# EAGLE library part TLC5955DCAR (library TLC5955DCAR)
48ch, 16bit PWM LED Driver with Dot-Correction, Brightness Control, Open/Short Detection Source: Datasheet <http://www.ti.com/lit/ds/symlink/tlc5955.pdf>
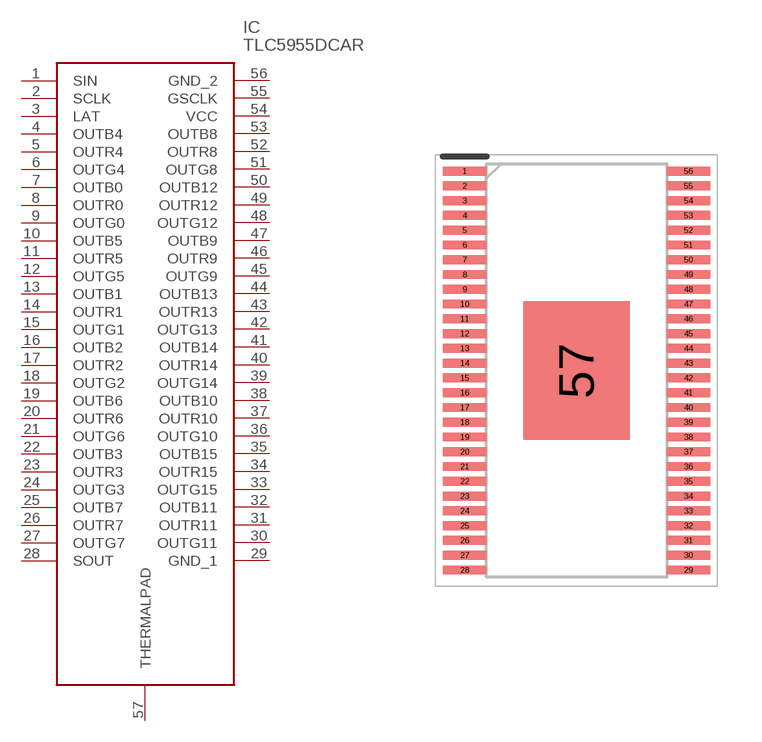
[diagram p0: symbol with the pads of SOP50P810X120-57N; footprint SOP50P810X120-57N]

Designator prefix IC

## TLC5955DCAR (Arrow_Part_Number: TLC5955DCAR; Arrow_Price-Stock: https://www.arrow.com/en/products/tlc5955dcar/texas-instruments; Description: 48ch, 16bit PWM LED Driver with Dot-Correction, Brightness Control, Open/Short Detection; Height: 1.2mm; Manufacturer_Name: Texas Instruments; Manufacturer_Part_Number: TLC5955DCAR; Mouser_Part_Number: 595-TLC5955DCAR; Mouser_Price-Stock: https://www.mouser.co.uk/ProductDetail/Texas-Instruments/TLC5955DCAR?qs=%2Fd%252BFzHvH4c3zo%2FeGYG5n7g%3D%3D)  [SOP50P810X120-57N]
1  SIN
2  SCLK
3  LAT
4  OUTB4
5  OUTR4
6  OUTG4
7  OUTB0
8  OUTR0
9  OUTG0
10  OUTB5
11  OUTR5
12  OUTG5
13  OUTB1
14  OUTR1
15  OUTG1
16  OUTB2
17  OUTR2
18  OUTG2
19  OUTB6
20  OUTR6
21  OUTG6
22  OUTB3
23  OUTR3
24  OUTG3
25  OUTB7
26  OUTR7
27  OUTG7
28  SOUT
29  GND_1
30  OUTG11
31  OUTR11
32  OUTB11
33  OUTG15
34  OUTR15
35  OUTB15
36  OUTG10
37  OUTR10
38  OUTB10
39  OUTG14
40  OUTR14
41  OUTB14
42  OUTG13
43  OUTR13
44  OUTB13
45  OUTG9
46  OUTR9
47  OUTB9
48  OUTG12
49  OUTR12
50  OUTB12
51  OUTG8
52  OUTR8
53  OUTB8
54  VCC
55  GSCLK
56  GND_2
57  THERMALPAD

## Footprint SOP50P810X120-57N (pad centres in mm)
DCA (R-PDS0-G56)
smd 1.475 x 0.3: 1 -3.788,6.75; 2 -3.788,6.25; 3 -3.788,5.75; 4 -3.788,5.25; 5 -3.788,4.75; 6 -3.788,4.25; 7 -3.788,3.75; 8 -3.788,3.25; 9 -3.788,2.75; 10 -3.788,2.25; 11 -3.788,1.75; 12 -3.788,1.25; 13 -3.788,0.75; 14 -3.788,0.25; 15 -3.788,-0.25; 16 -3.788,-0.75; 17 -3.788,-1.25; 18 -3.788,-1.75; 19 -3.788,-2.25; 20 -3.788,-2.75; 21 -3.788,-3.25; 22 -3.788,-3.75; 23 -3.788,-4.25; 24 -3.788,-4.75; 25 -3.788,-5.25; 26 -3.788,-5.75; 27 -3.788,-6.25; 28 -3.788,-6.75; 29 3.788,-6.75; 30 3.788,-6.25; 31 3.788,-5.75; 32 3.788,-5.25; 33 3.788,-4.75; 34 3.788,-4.25; 35 3.788,-3.75; 36 3.788,-3.25; 37 3.788,-2.75; 38 3.788,-2.25; 39 3.788,-1.75; 40 3.788,-1.25; 41 3.788,-0.75; 42 3.788,-0.25; 43 3.788,0.25; 44 3.788,0.75; 45 3.788,1.25; 46 3.788,1.75; 47 3.788,2.25; 48 3.788,2.75; 49 3.788,3.25; 50 3.788,3.75; 51 3.788,4.25; 52 3.788,4.75; 53 3.788,5.25; 54 3.788,5.75; 55 3.788,6.25; 56 3.788,6.75
smd 3.61 x 4.7: 57 0,0